# EAGLE library part 0545482271 (library 0545482271)
CONN FFC BOTTOM 22POS 0.50MM R/A Source: Datasheet <http://www.molex.com/webdocs/datasheets/pdf/en-us//0545482271_FFC_FPC_CONNECTORS.pdf>
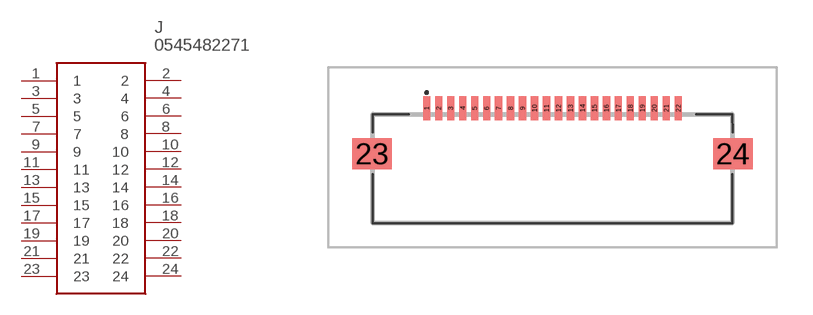
[diagram p0: symbol with the pads of 0545482271; footprint 0545482271]

Designator prefix J

## 0545482271 (Description: CONN FFC BOTTOM 22POS 0.50MM R/A; Height: 1mm; Manufacturer_Name: Molex; Manufacturer_Part_Number: 0545482271; Mouser_Part_Number: N/A; Mouser_Price-Stock: https://www.mouser.com/Search/Refine.aspx?Keyword=N%2FA)  [0545482271]
1  1
2  2
3  3
4  4
5  5
6  6
7  7
8  8
9  9
10  10
11  11
12  12
13  13
14  14
15  15
16  16
17  17
18  18
19  19
20  20
21  21
22  22
23  23
24  24

## Footprint 0545482271 (pad centres in mm)
0545482271
smd 0.3 x 1: 1 -5.25,2.05; 2 -4.75,2.05; 3 -4.25,2.05; 4 -3.75,2.05; 5 -3.25,2.05; 6 -2.75,2.05; 7 -2.25,2.05; 8 -1.75,2.05; 9 -1.25,2.05; 10 -0.75,2.05; 11 -0.25,2.05; 12 0.25,2.05; 13 0.75,2.05; 14 1.25,2.05; 15 1.75,2.05; 16 2.25,2.05; 17 2.75,2.05; 18 3.25,2.05; 19 3.75,2.05; 20 4.25,2.05; 21 4.75,2.05; 22 5.25,2.05
smd 1.65 x 1.3: 23 -7.525,0.15; 24 7.525,0.15